# EAGLE library part HEADER-9X1 (library Controller)
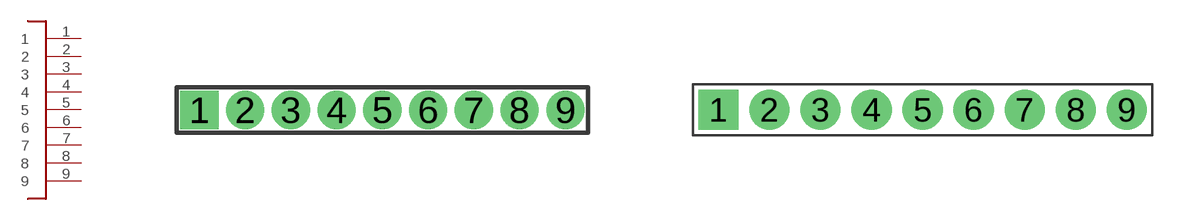
[diagram p16: symbol with the pads of HEADER-9X1-1.27; footprints HEADER-9X1-1.27, HEADER-9X1-2.54]

Designator prefix -

## HEADER-9X1-1.27  [HEADER-9X1-1.27]
1  1
2  2
3  3
4  4
5  5
6  6
7  7
8  8
9  9

## HEADER-9X1-2.54  [HEADER-9X1-2.54]
Pads as for HEADER-9X1-1.27

## Footprint HEADER-9X1-1.27 (pad centres in mm)
5 pin 0.1" header
drill 0.55 square: 1 -5.08,0
drill 0.55: 2 -3.81,0; 3 -2.54,0; 4 -1.27,0; 5 0,0; 6 1.27,0; 7 2.54,0; 8 3.81,0; 9 5.08,0

## Footprint HEADER-9X1-2.54 (pad centres in mm)
5 pin 0.1" header
drill 1.05 pad 2 square: 1 -10.16,0
drill 1.05 pad 2: 2 -7.62,0; 3 -5.08,0; 4 -2.54,0; 5 0,0; 6 2.54,0; 7 5.08,0; 8 7.62,0; 9 10.16,0